# EAGLE library part BEAGLEBONE_BLUE_R3_TCAN1051HV (library EagleTestLibrary_3)
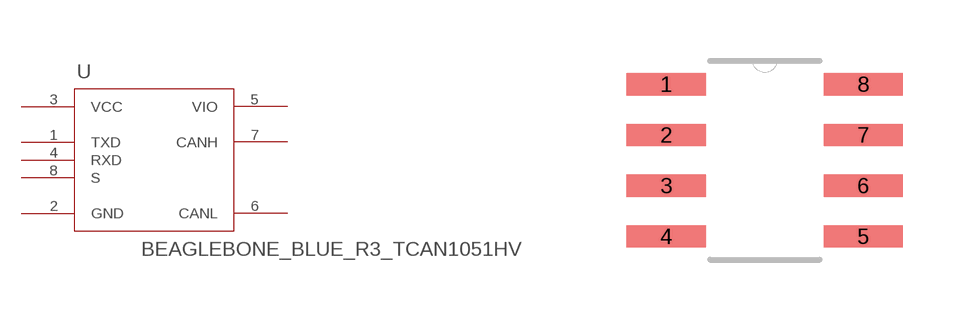
[diagram p16: symbol with the pads of BEAGLEBONE_BLUE_R3_D8; footprint BEAGLEBONE_BLUE_R3_D8]

Designator prefix U

## BEAGLEBONE_BLUE_R3_TCAN1051HV (DATASHEETURL: http://www.ti.com/lit/ds/symlink/tcan1051hv.pdf; DESCRIPTION: CAN Transceiver; FAMILY_NAME: CAN Transceiver; GENERIC_PART_NUMBER: TCAN1051HV; INDUSTRY_STD_PKG_TYPE: SOIC; MANUFACTURER: Texas Instruments; MANUFACTURER_PART_NUMBER: TCAN1051HVD; PACKAGE_DESIGNATOR: D; PIN_COUNT: 8; VENDOR: Texas Instruments)  [BEAGLEBONE_BLUE_R3_D8]
1  TXD  in
2  GND  pwr
3  VCC  pwr
4  RXD  out
5  VIO  pwr
6  CANL
7  CANH
8  S  in

## Footprint BEAGLEBONE_BLUE_R3_D8 (pad centres in mm)
smd 1.981 x 0.559: 1 -2.464,1.905; 2 -2.464,0.635; 3 -2.464,-0.635; 4 -2.464,-1.905; 5 2.464,-1.905; 6 2.464,-0.635; 7 2.464,0.635; 8 2.464,1.905